# EAGLE library part INA818ID (library ds_ic_peripherals)
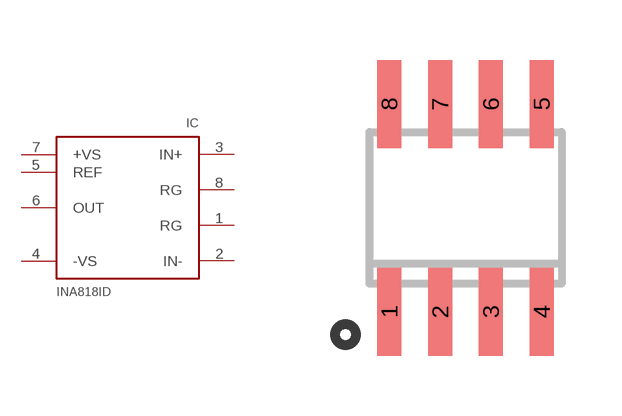
[diagram p20: symbol with the pads of SO8; footprint SO8]

Designator prefix IC

## INA818ID (DATASHEET: https://www.ti.com/lit/ds/symlink/ina818.pdf; DESCRIPTION: -40℃~+125℃ 0.9V/us 1 10uV 150pA SOIC-8 Instrumentation Amplifiers ROHS; LCSC_PART: C2058528; MANUFACTURER: Texas Instruments; MPN: INA818IDR; ROHS: YES; VALUE: INA818IDR)  [SO8]
1  RG  in
2  IN-  in
3  IN+  in
4  -VS  pwr
5  REF  in
6  OUT  out
7  +VS  pwr
8  RG  in

## Footprint SO8 (pad centres in mm)
SMALL OUTLINE INTEGRATED CIRCUIT
smd 0.6 x 2.2: 1 -1.905,-2.6; 2 -0.635,-2.6; 3 0.635,-2.6; 4 1.905,-2.6; 5 1.905,2.6; 6 0.635,2.6; 7 -0.635,2.6; 8 -1.905,2.6